# Altium footprint library libochka.PcbLib: 1 footprints
Each footprint in its own frame and in the unit in brackets; x right, y up, seen from the top. Pads: shape width x height; smd on the part's side, far side on the other; paste and mask are expansions set on the pad; w line width, h text height; cw(c..) or ccw(c..) is an arc to the next point about the centre after c.
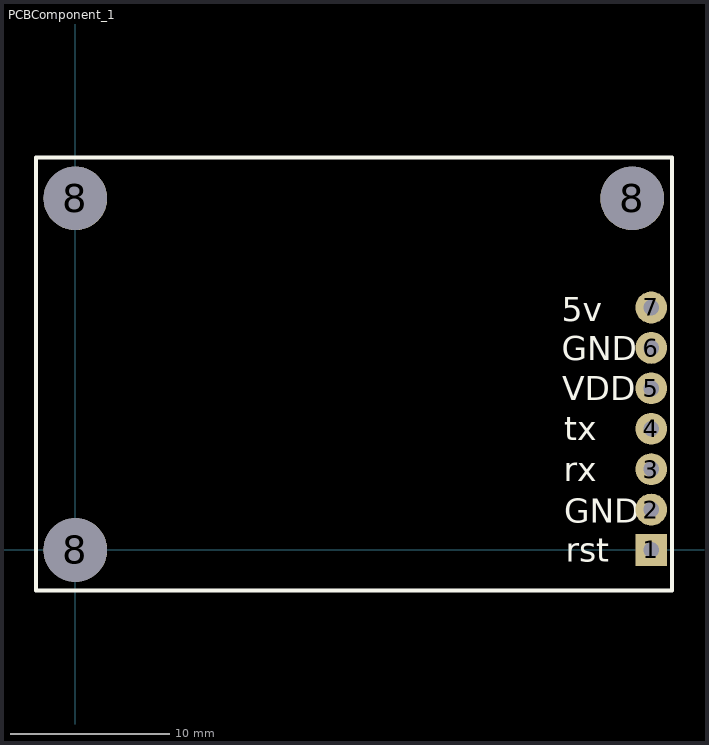
[diagram p0: the footprint, top view; thin cyan lines are the x and y axes]

## PCBComponent_1 [mm]
pads (10):
  rect 2x2 hole 1: 1(36.195,0)
  round 2 hole 1: 2(36.195,2.54) 3(36.195,5.08) 4(36.195,7.62) 5(36.195,10.16) 6(36.195,12.7) 7(36.195,15.24)
  round 4 hole 4 unplated: 8(0,0) 8(0,22.1) 8(35,22.1)
Top Overlay:
  lines w0.254: -2.489,-2.54 37.511,-2.54 37.511,24.66 -2.489,24.66 -2.489,-2.54
  text "5v" at 30.556,14.376 h1.52
  text "GND" at 30.556,11.913 h1.52
  text "VDD" at 30.607,9.398 h1.52
  text "tx" at 30.734,6.883 h1.52
  text "rx" at 30.683,4.318 h1.52
  text "GND" at 30.734,1.702 h1.52
  text "rst" at 30.81,-0.737 h1.52
3D body: height 11, standoff 10, extent -2.54,-2.553 37.465,24.625